# Altium footprint library Wurth_Elektronik_Passive_rev16a.PCBLIB: 810 footprints (part 37 of 51)
Each footprint in its own frame and in the unit in brackets; x right, y up, seen from the top. Pads: shape width x height; smd on the part's side, far side on the other; paste and mask are expansions set on the pad; w line width, h text height; cw(c..) or ccw(c..) is an arc to the next point about the centre after c.
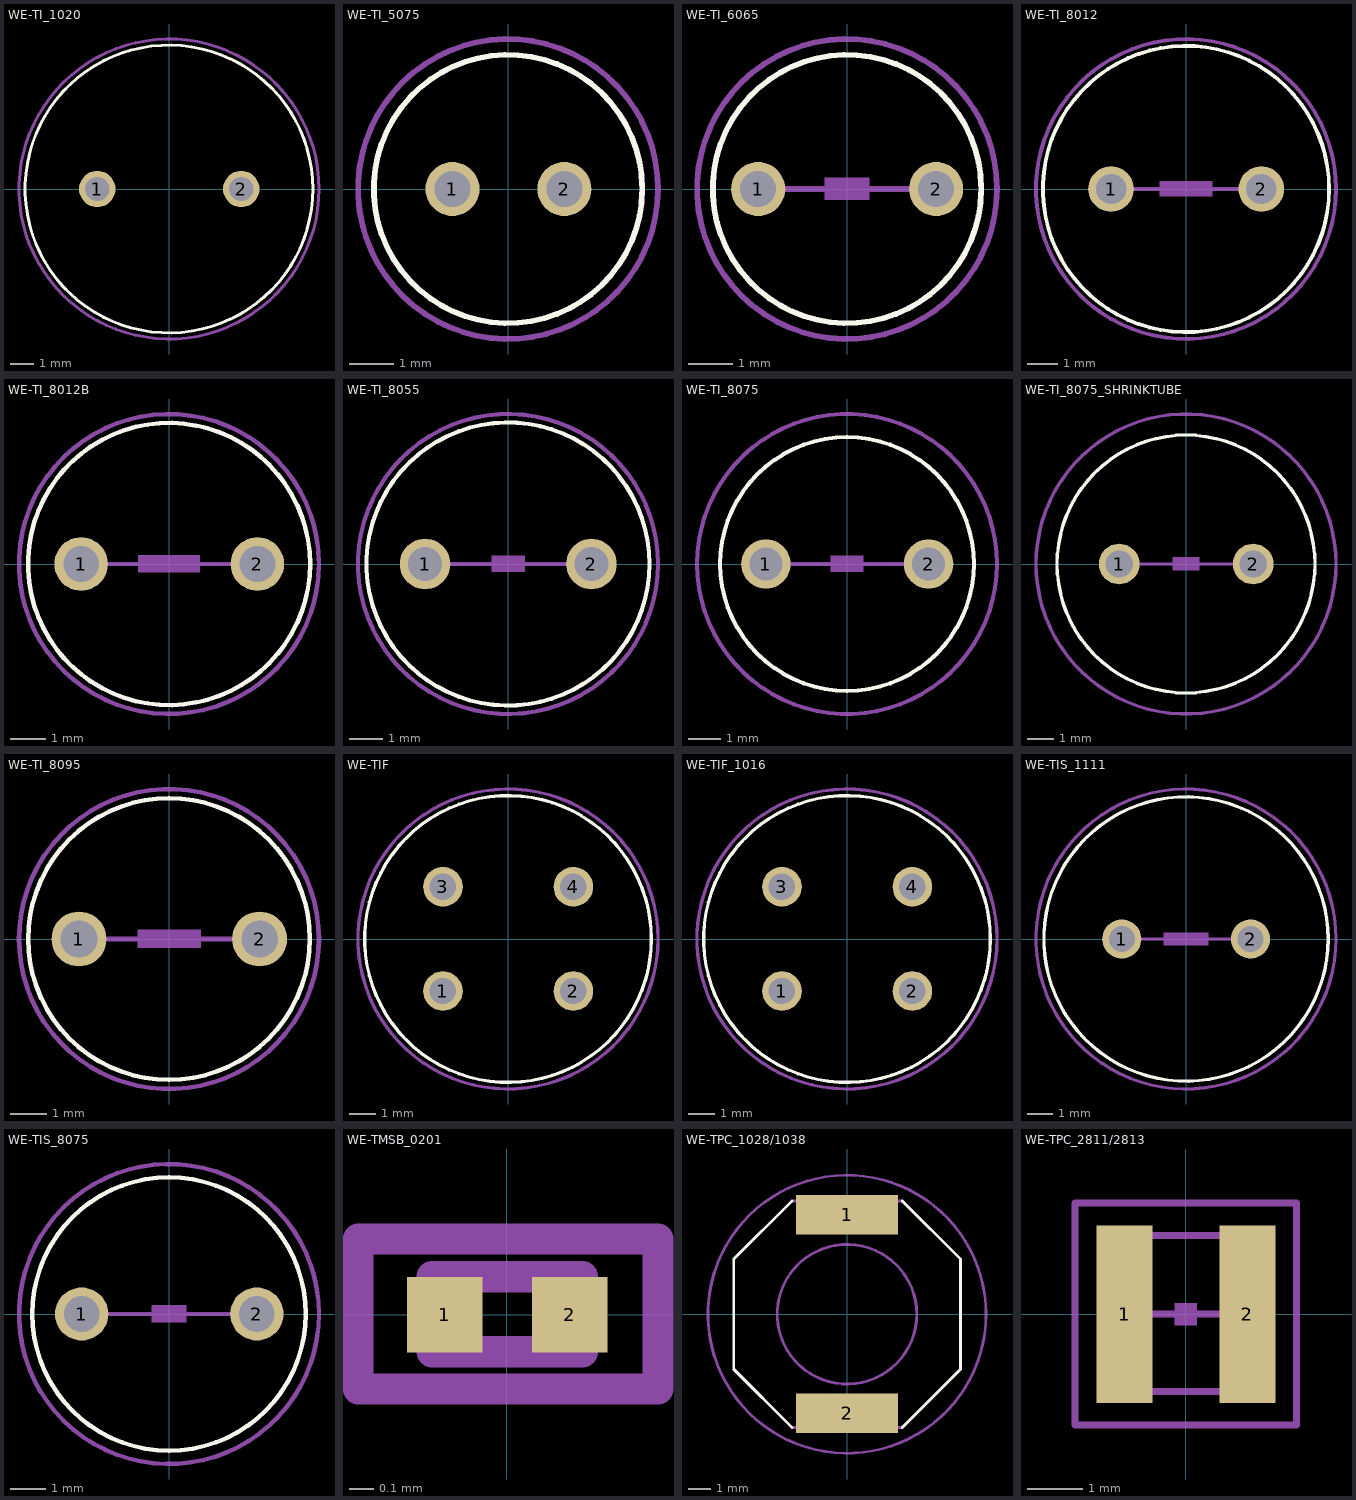
[diagram p36: the footprints below, top view; thin cyan lines are the x and y axes]

## WE-TI_1020 [mil]
pads (2):
  round 60 hole 40: 1(-118.11,0) 2(119,0)
Top Overlay:
  circle w5: c0,0 r237
Mechanical 2:
  text ">NAME" at -150,250 h77.5
Mechanical 4:
  text ">VALUE" at -150,-300 h77.5
Mechanical 27:
  circle w5: c0,0 r247

## WE-TI_5075 [mil]
pads (2):
  round 48 hole 32: 1(-49.21,0) 2(50,0)
Top Overlay:
  circle w5: c0,0 r119
Mechanical 2:
  text ">NAME" at -118.11,-177.17 h77.5
Mechanical 4:
  text ">VALUE" at -137.8,138 h77.5
Mechanical 27:
  circle w5: c0,0 r133

## WE-TI_6065 [mil]
pads (2):
  round 48 hole 32: 1(-78.74,0) 2(79,0)
Top Overlay:
  circle w5: c0,0 r119
Mechanical 2:
  text ">NAME" at -150,-200 h77.5
Mechanical 4:
  text ">VALUE" at -150,150 h77.5
Mechanical 16:
  region: 19.92,-9.76 19.92,10.08 -19.76,10.08 -19.76,-9.76
  lines w5: -78.74,0 79,0
Mechanical 27:
  circle w5: c0,0 r133

## WE-TI_8012 [mil]
pads (2):
  round 60 hole 40: 1(-98.43,0) 2(99,0)
Top Overlay:
  circle w5: c0,0 r188
Mechanical 2:
  text ">NAME" at -150,-269.69 h77.5
Mechanical 4:
  text ">VALUE" at -150,215 h77.5
Mechanical 16:
  region: 34.8,-9.65 34.8,10.2 -34.65,10.2 -34.65,-9.65
  lines w5: -98.43,0 99,0
Mechanical 27:
  circle w5: c0,0 r197

## WE-TI_8012B [mil]
pads (2):
  round 60 hole 40: 1(-98.43,0) 2(99,0)
Top Overlay:
  circle w5: c0,0 r158
Mechanical 2:
  text ">NAME" at -150,-250 h77.5
Mechanical 4:
  text ">VALUE" at -150,175 h77.5
Mechanical 16:
  region: 34.8,-9.65 34.8,10.2 -34.65,10.2 -34.65,-9.65
  lines w5: -98.43,0 99,0
Mechanical 27:
  circle w5: c0,0 r168

## WE-TI_8055 [mil]
pads (2):
  round 60 hole 40: 1(-98.43,0) 2(99,0)
Top Overlay:
  circle w5: c0,0 r168
Mechanical 2:
  text ">NAME" at -150,-239.37 h77.5
Mechanical 4:
  text ">VALUE" at -150,190 h77.5
Mechanical 16:
  region: 19.92,-9.76 19.92,10.08 -19.76,10.08 -19.76,-9.76
  lines w5: -98.43,0 99,0
Mechanical 27:
  circle w5: c0,0 r178

## WE-TI_8075 [mil]
pads (2):
  round 60 hole 40: 1(-98.43,0) 2(99,0)
Top Overlay:
  circle w5: c0,0 r154
Mechanical 2:
  text ">NAME" at -150,-239.37 h77.5
Mechanical 4:
  text ">VALUE" at -150,190 h77.5
Mechanical 16:
  region: 19.92,-9.76 19.92,10.08 -19.76,10.08 -19.76,-9.76
  lines w5: -98.43,0 99,0
Mechanical 27:
  circle w5: c0,0 r182

## WE-TI_8075_SHRINKTUBE [mil]
pads (2):
  round 60 hole 40: 1(-98.43,0) 2(99,0)
Top Overlay:
  circle w5: c0,0 r190
Mechanical 2:
  text ">NAME" at -150,-278.74 h77.5
Mechanical 4:
  text ">VALUE" at -150,229 h77.5
Mechanical 16:
  region: 19.92,-9.76 19.92,10.08 -19.76,10.08 -19.76,-9.76
  lines w5: -98.43,0 99,0
Mechanical 27:
  circle w5: c0,0 r221

## WE-TI_8095 [mil]
pads (2):
  round 60 hole 40: 1(-98.43,0) 2(99,0)
Top Overlay:
  circle w5: c0,0 r154
Mechanical 2:
  text ">NAME" at -150,-250 h77.5
Mechanical 4:
  text ">VALUE" at -150,175 h77.5
Mechanical 16:
  region: 34.8,-9.65 34.8,10.2 -34.65,10.2 -34.65,-9.65
  lines w5: -98.43,0 99,0
Mechanical 27:
  circle w5: c0,0 r164

## WE-TIF [mil]
pads (4):
  round 60 hole 40: 1(-98.43,-78.74) 2(99,-78.74) 3(-98.43,79) 4(99,79)
Top Overlay:
  circle w5: c0,0 r217
Mechanical 2:
  text ">NAME" at -157.48,276 h77.5
Mechanical 4:
  text ">VALUE" at -157.48,-304.33 h77.5
Mechanical 27:
  circle w5: c0,0 r227

## WE-TIF_1016 [mil]
pads (4):
  round 60 hole 40: 1(-98.43,-78.74) 2(99,-78.74) 3(-98.43,79) 4(99,79)
Top Overlay:
  circle w5: c0,0 r217
Mechanical 2:
  text ">NAME" at -100,250 h77.5
Mechanical 4:
  text ">Value" at -100,-300 h77.5
Mechanical 27:
  circle w5: c0,0 r227

## WE-TIS_1111 [mil]
pads (2):
  round 60 hole 40: 1(-98.43,0) 2(99,0)
Top Overlay:
  circle w5: c0,0 r218
Mechanical 2:
  text ">NAME" at -150,-328.74 h77.5
Mechanical 4:
  text ">VALUE" at -150,254 h77.5
Mechanical 16:
  region: 34.8,-9.65 34.8,10.2 -34.65,10.2 -34.65,-9.65
  lines w5: -98.43,0 99,0
Mechanical 27:
  circle w5: c0,0 r230

## WE-TIS_8075 [mil]
pads (2):
  round 60 hole 40: 1(-98.43,0) 2(99,0)
Top Overlay:
  circle w5: c0,0 r154
Mechanical 2:
  text ">NAME" at -150,-239.37 h77.5
Mechanical 4:
  text ">VALUE" at -150,190 h77.5
Mechanical 16:
  region: 19.92,-9.76 19.92,10.08 -19.76,10.08 -19.76,-9.76
  lines w5: -98.43,0 99,0
Mechanical 27:
  circle w5: c0,0 r169

## WE-TMSB_0201 [mil]
pads (2):
  rect 12x12 smd: 1(-9.84,0) 2(10,0)
Mechanical 2:
  text ">NAME" at -31.5,18 h15.5
Mechanical 4:
  text ">VALUE" at -31.5,-27.56 h15.5
Mechanical 16:
  lines w5: -11.81,-5.91 -11.81,6 12,6 12,-5.91 -11.81,-5.91
Mechanical 27:
  lines w5: -23.62,-11.81 24,-11.81 24,12 -23.62,12 -23.62,-11.81

## WE-TPC_1028/1038 [mil]
pads (2):
  rect 182x71 smd: 1(0,178) 2(0,-177.17)
Top Overlay:
  lines w5: -98.43,-202.76 -202.76,-98.43 -202.76,99 -98.43,203 ; 99,-202.76 203,-98.43 203,99 99,203
Mechanical 2:
  text ">NAME" at -232.28,-208.66 h77.5
Mechanical 4:
  text ">VALUE" at 266,-200.79 h77.5
Mechanical 10:
  circle w5: c0,0 r125
Mechanical 16:
  lines w5: -98.43,-202.76 99,-202.76 ; -98.43,203 99,203
Mechanical 27:
  circle w5: c0,0 r249

## WE-TPC_2811/2813 [mil]
pads (2):
  rect 40x126 smd: 1(-43.31,0) 2(44,0)
Mechanical 2:
  text ">NAME" at -114.17,-137.8 h77.5
Mechanical 4:
  text ">VALUE" at -122.05,95 h77.5
Mechanical 16:
  rectangle: -7.87,-7.87 8,8
  lines w5: -35.43,0 -7.87,0 ; 8,0 36,0 ; -55.12,-55.12 56,-55.12 56,56 -55.12,56 -55.12,-55.12
Mechanical 27:
  lines w5: -78.74,-78.74 79,-78.74 79,79 -78.74,79 -78.74,-78.74